# Altium footprint library WR-PHD_Pin Header_1.27mm.PcbLib: 31 footprints (part 2 of 2)
Each footprint in its own frame and in the unit in brackets; x right, y up, seen from the top. Pads: shape width x height; smd on the part's side, far side on the other; paste and mask are expansions set on the pad; w line width, h text height; cw(c..) or ccw(c..) is an arc to the next point about the centre after c.
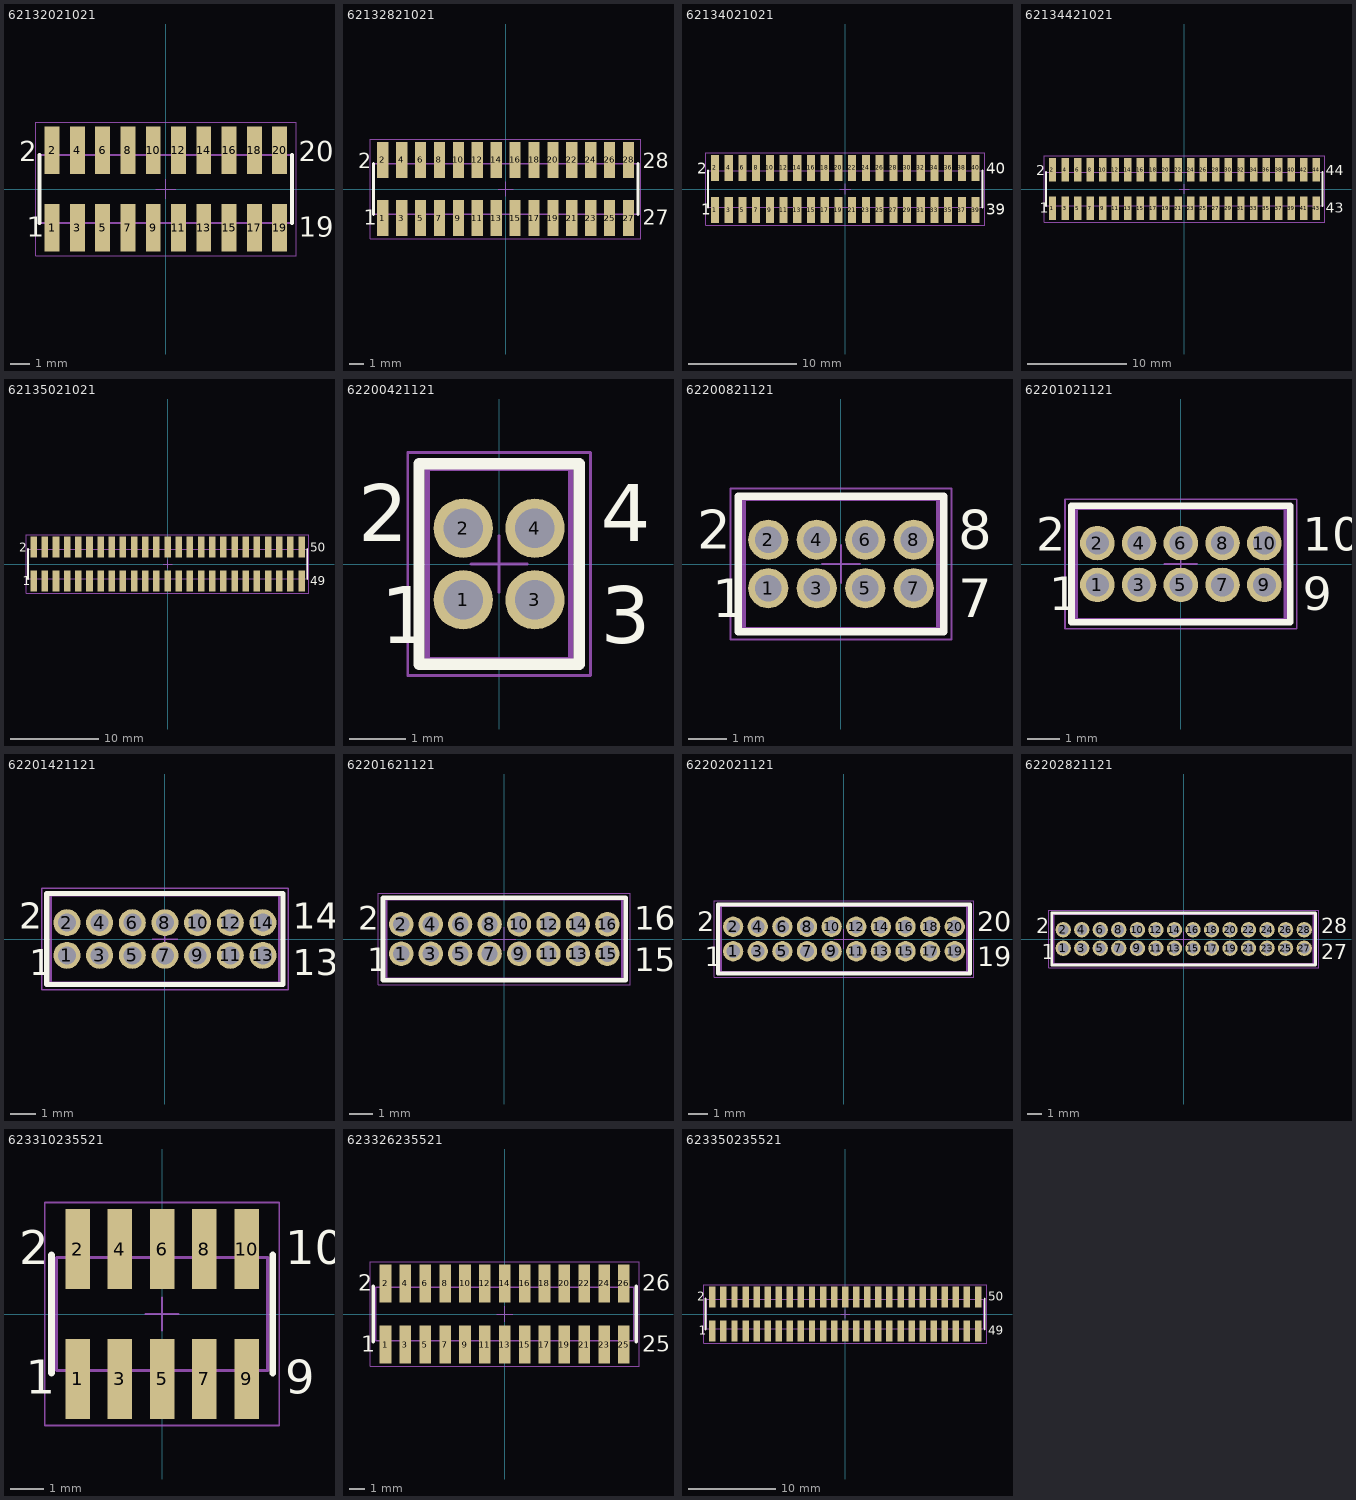
[diagram p1: the footprints below, top view; thin cyan lines are the x and y axes]

## 62132021021 [mm] "Pin Header, pitch 1.27 mm, SMD, Vertical, dual row, 20p"
height 6.1
pads (20):
  rect 0.75x2.4 smd: 1(-5.715,-1.95) 2(-5.715,1.95) 3(-4.445,-1.95) 4(-4.445,1.95) 5(-3.175,-1.95) 6(-3.175,1.95) 7(-1.905,-1.95) 8(-1.905,1.95) 9(-0.635,-1.95) 10(-0.635,1.95) 11(0.635,-1.95) 12(0.635,1.95) 13(1.905,-1.95) 14(1.905,1.95) 15(3.175,-1.95) 16(3.175,1.95) 17(4.445,-1.95) 18(4.445,1.95) 19(5.715,-1.95) 20(5.715,1.95)
Top Overlay:
  lines w0.2: -6.35,-1.7 -6.35,1.7 ; 6.35,-1.7 6.35,1.7
  text "1" at -6.98,-2.4 h1.02
  text "2" at -7.38,1.4 h1.02
  text "19" at 6.68,-2.4 h1.02
  text "20" at 6.68,1.4 h1.02
Mechanical 13:
  lines w0.1: -5.915,-1.7 -5.915,-2.5 -5.515,-2.5 -5.515,-1.7 ; -5.915,1.7 -5.915,2.5 -5.515,2.5 -5.515,1.7 ; -4.645,-1.7 -4.645,-2.5 -4.245,-2.5 -4.245,-1.7 ; -4.645,1.7 -4.645,2.5 -4.245,2.5 -4.245,1.7 ; -3.375,-1.7 -3.375,-2.5 -2.975,-2.5 -2.975,-1.7 ; -3.375,1.7 -3.375,2.5 -2.975,2.5 -2.975,1.7 ; -2.105,-1.7 -2.105,-2.5 -1.705,-2.5 -1.705,-1.7 ; -2.105,1.7 -2.105,2.5 -1.705,2.5 -1.705,1.7 ; -0.835,-1.7 -0.835,-2.5 -0.435,-2.5 -0.435,-1.7 ; -0.835,1.7 -0.835,2.5 -0.435,2.5 -0.435,1.7 ; 0.435,-1.7 0.435,-2.5 0.835,-2.5 0.835,-1.7 ; 0.435,1.7 0.435,2.5 0.835,2.5 0.835,1.7 ; 1.705,-1.7 1.705,-2.5 2.105,-2.5 2.105,-1.7 ; 1.705,1.7 1.705,2.5 2.105,2.5 2.105,1.7 ; 2.975,-1.7 2.975,-2.5 3.375,-2.5 3.375,-1.7 ; 2.975,1.7 2.975,2.5 3.375,2.5 3.375,1.7 ; 4.245,-1.7 4.245,-2.5 4.645,-2.5 4.645,-1.7 ; 4.245,1.7 4.245,2.5 4.645,2.5 4.645,1.7 ; 5.515,-1.7 5.515,-2.5 5.915,-2.5 5.915,-1.7 ; 5.515,1.7 5.515,2.5 5.915,2.5 5.915,1.7 ; -6.35,-1.7 -6.35,1.7 6.35,1.7 6.35,-1.7 -6.35,-1.7
Mechanical 15:
  lines w0.05: -0.5,0 0.5,0 ; 0,-0.5 0,0.5 ; -6.55,-3.35 -6.55,3.35 6.55,3.35 6.55,-3.35 -6.55,-3.35
3D body "62132021021.stp": height 5.9, standoff 0, extent -6.35,-2.55 6.35,2.55

## 62132821021 [mm] "Pin Header, pitch 1.27 mm, SMD, Vertical, dual row, 28p"
height 6.1
pads (28):
  rect 0.75x2.4 smd: 1(-8.255,-1.95) 2(-8.255,1.95) 3(-6.985,-1.95) 4(-6.985,1.95) 5(-5.715,-1.95) 6(-5.715,1.95) 7(-4.445,-1.95) 8(-4.445,1.95) 9(-3.175,-1.95) 10(-3.175,1.95) 11(-1.905,-1.95) 12(-1.905,1.95) 13(-0.635,-1.95) 14(-0.635,1.95) 15(0.635,-1.95) 16(0.635,1.95) 17(1.905,-1.95) 18(1.905,1.95) 19(3.175,-1.95) 20(3.175,1.95) 21(4.445,-1.95) 22(4.445,1.95) 23(5.715,-1.95) 24(5.715,1.95) 25(6.985,-1.95) 26(6.985,1.95) 27(8.255,-1.95) 28(8.255,1.95)
Top Overlay:
  lines w0.2: -8.89,-1.7 -8.89,1.7 ; 8.89,-1.7 8.89,1.7
  text "1" at -9.52,-2.4 h1.02
  text "2" at -9.92,1.4 h1.02
  text "27" at 9.22,-2.4 h1.02
  text "28" at 9.22,1.4 h1.02
Mechanical 13:
  lines w0.1: -8.455,-1.7 -8.455,-2.5 -8.055,-2.5 -8.055,-1.7 ; -8.455,1.7 -8.455,2.5 -8.055,2.5 -8.055,1.7 ; -7.185,-1.7 -7.185,-2.5 -6.785,-2.5 -6.785,-1.7 ; -7.185,1.7 -7.185,2.5 -6.785,2.5 -6.785,1.7 ; -5.915,-1.7 -5.915,-2.5 -5.515,-2.5 -5.515,-1.7 ; -5.915,1.7 -5.915,2.5 -5.515,2.5 -5.515,1.7 ; -4.645,-1.7 -4.645,-2.5 -4.245,-2.5 -4.245,-1.7 ; -4.645,1.7 -4.645,2.5 -4.245,2.5 -4.245,1.7 ; -3.375,-1.7 -3.375,-2.5 -2.975,-2.5 -2.975,-1.7 ; -3.375,1.7 -3.375,2.5 -2.975,2.5 -2.975,1.7 ; -2.105,-1.7 -2.105,-2.5 -1.705,-2.5 -1.705,-1.7 ; -2.105,1.7 -2.105,2.5 -1.705,2.5 -1.705,1.7 ; -0.835,-1.7 -0.835,-2.5 -0.435,-2.5 -0.435,-1.7 ; -0.835,1.7 -0.835,2.5 -0.435,2.5 -0.435,1.7 ; 0.435,-1.7 0.435,-2.5 0.835,-2.5 0.835,-1.7 ; 0.435,1.7 0.435,2.5 0.835,2.5 0.835,1.7 ; 1.705,-1.7 1.705,-2.5 2.105,-2.5 2.105,-1.7 ; 1.705,1.7 1.705,2.5 2.105,2.5 2.105,1.7 ; 2.975,-1.7 2.975,-2.5 3.375,-2.5 3.375,-1.7 ; 2.975,1.7 2.975,2.5 3.375,2.5 3.375,1.7 ; 4.245,-1.7 4.245,-2.5 4.645,-2.5 4.645,-1.7 ; 4.245,1.7 4.245,2.5 4.645,2.5 4.645,1.7 ; 5.515,-1.7 5.515,-2.5 5.915,-2.5 5.915,-1.7 ; 5.515,1.7 5.515,2.5 5.915,2.5 5.915,1.7 ; 6.785,-1.7 6.785,-2.5 7.185,-2.5 7.185,-1.7 ; 6.785,1.7 6.785,2.5 7.185,2.5 7.185,1.7 ; 8.055,-1.7 8.055,-2.5 8.455,-2.5 8.455,-1.7 ; 8.055,1.7 8.055,2.5 8.455,2.5 8.455,1.7 ; -8.89,-1.7 -8.89,1.7 8.89,1.7 8.89,-1.7 -8.89,-1.7
Mechanical 15:
  lines w0.05: -0.5,0 0.5,0 ; 0,-0.5 0,0.5 ; -9.09,-3.35 -9.09,3.35 9.09,3.35 9.09,-3.35 -9.09,-3.35
3D body "62132821021.stp": height 5.9, standoff 0, extent -8.89,-2.55 8.89,2.55

## 62134021021 [mm] "Pin Header, pitch 1.27 mm, SMD, Vertical, dual row, 40p"
height 6.1
pads (40):
  rect 0.75x2.4 smd: 1(-12.065,-1.95) 2(-12.065,1.95) 3(-10.795,-1.95) 4(-10.795,1.95) 5(-9.525,-1.95) 6(-9.525,1.95) 7(-8.255,-1.95) 8(-8.255,1.95) 9(-6.985,-1.95) 10(-6.985,1.95) 11(-5.715,-1.95) 12(-5.715,1.95) 13(-4.445,-1.95) 14(-4.445,1.95) 15(-3.175,-1.95) 16(-3.175,1.95) 17(-1.905,-1.95) 18(-1.905,1.95) 19(-0.635,-1.95) 20(-0.635,1.95) 21(0.635,-1.95) 22(0.635,1.95) 23(1.905,-1.95) 24(1.905,1.95) 25(3.175,-1.95) 26(3.175,1.95) 27(4.445,-1.95) 28(4.445,1.95) 29(5.715,-1.95) 30(5.715,1.95) 31(6.985,-1.95) 32(6.985,1.95) 33(8.255,-1.95) 34(8.255,1.95) 35(9.525,-1.95) 36(9.525,1.95) 37(10.795,-1.95) 38(10.795,1.95) 39(12.065,-1.95) 40(12.065,1.95)
Top Overlay:
  lines w0.2: -12.7,-1.7 -12.7,1.7 ; 12.7,-1.7 12.7,1.7
  text "40" at 13.03,1.4 h1.02
  text "39" at 13.03,-2.4 h1.02
  text "1" at -13.33,-2.4 h1.02
  text "2" at -13.73,1.4 h1.02
Mechanical 13:
  lines w0.1: -12.265,-1.7 -12.265,-2.5 -11.865,-2.5 -11.865,-1.7 ; -12.265,1.7 -12.265,2.5 -11.865,2.5 -11.865,1.7 ; -10.995,-1.7 -10.995,-2.5 -10.595,-2.5 -10.595,-1.7 ; -10.995,1.7 -10.995,2.5 -10.595,2.5 -10.595,1.7 ; -9.725,-1.7 -9.725,-2.5 -9.325,-2.5 -9.325,-1.7 ; -9.725,1.7 -9.725,2.5 -9.325,2.5 -9.325,1.7 ; -8.455,-1.7 -8.455,-2.5 -8.055,-2.5 -8.055,-1.7 ; -8.455,1.7 -8.455,2.5 -8.055,2.5 -8.055,1.7 ; -7.185,-1.7 -7.185,-2.5 -6.785,-2.5 -6.785,-1.7 ; -7.185,1.7 -7.185,2.5 -6.785,2.5 -6.785,1.7 ; -5.915,-1.7 -5.915,-2.5 -5.515,-2.5 -5.515,-1.7 ; -5.915,1.7 -5.915,2.5 -5.515,2.5 -5.515,1.7 ; -4.645,-1.7 -4.645,-2.5 -4.245,-2.5 -4.245,-1.7 ; -4.645,1.7 -4.645,2.5 -4.245,2.5 -4.245,1.7 ; -3.375,-1.7 -3.375,-2.5 -2.975,-2.5 -2.975,-1.7 ; -3.375,1.7 -3.375,2.5 -2.975,2.5 -2.975,1.7 ; -2.105,-1.7 -2.105,-2.5 -1.705,-2.5 -1.705,-1.7 ; -2.105,1.7 -2.105,2.5 -1.705,2.5 -1.705,1.7 ; -0.835,-1.7 -0.835,-2.5 -0.435,-2.5 -0.435,-1.7 ; -0.835,1.7 -0.835,2.5 -0.435,2.5 -0.435,1.7 ; 0.435,-1.7 0.435,-2.5 0.835,-2.5 0.835,-1.7 ; 0.435,1.7 0.435,2.5 0.835,2.5 0.835,1.7 ; 1.705,-1.7 1.705,-2.5 2.105,-2.5 2.105,-1.7 ; 1.705,1.7 1.705,2.5 2.105,2.5 2.105,1.7 ; 2.975,-1.7 2.975,-2.5 3.375,-2.5 3.375,-1.7 ; 2.975,1.7 2.975,2.5 3.375,2.5 3.375,1.7 ; 4.245,-1.7 4.245,-2.5 4.645,-2.5 4.645,-1.7 ; 4.245,1.7 4.245,2.5 4.645,2.5 4.645,1.7 ; 5.515,-1.7 5.515,-2.5 5.915,-2.5 5.915,-1.7 ; 5.515,1.7 5.515,2.5 5.915,2.5 5.915,1.7 ; 6.785,-1.7 6.785,-2.5 7.185,-2.5 7.185,-1.7 ; 6.785,1.7 6.785,2.5 7.185,2.5 7.185,1.7 ; 8.055,-1.7 8.055,-2.5 8.455,-2.5 8.455,-1.7 ; 8.055,1.7 8.055,2.5 8.455,2.5 8.455,1.7 ; 9.325,-1.7 9.325,-2.5 9.725,-2.5 9.725,-1.7 ; 9.325,1.7 9.325,2.5 9.725,2.5 9.725,1.7 ; 10.595,-1.7 10.595,-2.5 10.995,-2.5 10.995,-1.7 ; 10.595,1.7 10.595,2.5 10.995,2.5 10.995,1.7 ; 11.865,-1.7 11.865,-2.5 12.265,-2.5 12.265,-1.7 ; 11.865,1.7 11.865,2.5 12.265,2.5 12.265,1.7 ; -12.7,-1.7 -12.7,1.7 12.7,1.7 12.7,-1.7 -12.7,-1.7
Mechanical 15:
  lines w0.05: -0.5,0 0.5,0 ; 0,-0.5 0,0.5 ; -12.9,-3.35 -12.9,3.35 12.9,3.35 12.9,-3.35 -12.9,-3.35
3D body "62134021021.stp": height 5.9, standoff 0, extent -12.7,-2.55 12.7,2.55

## 62134421021 [mm] "Pin Header, pitch 1.27 mm, SMD, Vertical, dual row, 44p"
height 6.1
pads (44):
  rect 0.75x2.4 smd: 1(-13.335,-1.95) 2(-13.335,1.95) 3(-12.065,-1.95) 4(-12.065,1.95) 5(-10.795,-1.95) 6(-10.795,1.95) 7(-9.525,-1.95) 8(-9.525,1.95) 9(-8.255,-1.95) 10(-8.255,1.95) 11(-6.985,-1.95) 12(-6.985,1.95) 13(-5.715,-1.95) 14(-5.715,1.95) 15(-4.445,-1.95) 16(-4.445,1.95) 17(-3.175,-1.95) 18(-3.175,1.95) 19(-1.905,-1.95) 20(-1.905,1.95) 21(-0.635,-1.95) 22(-0.635,1.95) 23(0.635,-1.95) 24(0.635,1.95) 25(1.905,-1.95) 26(1.905,1.95) 27(3.175,-1.95) 28(3.175,1.95) 29(4.445,-1.95) 30(4.445,1.95) 31(5.715,-1.95) 32(5.715,1.95) 33(6.985,-1.95) 34(6.985,1.95) 35(8.255,-1.95) 36(8.255,1.95) 37(9.525,-1.95) 38(9.525,1.95) 39(10.795,-1.95) 40(10.795,1.95) 41(12.065,-1.95) 42(12.065,1.95) 43(13.335,-1.95) 44(13.335,1.95)
Top Overlay:
  lines w0.2: -13.97,-1.7 -13.97,1.7 ; 13.97,-1.7 13.97,1.7
  text "44" at 14.3,1.4 h1.02
  text "43" at 14.3,-2.4 h1.02
  text "2" at -15,1.4 h1.02
  text "1" at -14.6,-2.4 h1.02
Mechanical 13:
  lines w0.1: -13.535,-1.7 -13.535,-2.5 -13.135,-2.5 -13.135,-1.7 ; -13.535,1.7 -13.535,2.5 -13.135,2.5 -13.135,1.7 ; -12.265,-1.7 -12.265,-2.5 -11.865,-2.5 -11.865,-1.7 ; -12.265,1.7 -12.265,2.5 -11.865,2.5 -11.865,1.7 ; -10.995,-1.7 -10.995,-2.5 -10.595,-2.5 -10.595,-1.7 ; -10.995,1.7 -10.995,2.5 -10.595,2.5 -10.595,1.7 ; -9.725,-1.7 -9.725,-2.5 -9.325,-2.5 -9.325,-1.7 ; -9.725,1.7 -9.725,2.5 -9.325,2.5 -9.325,1.7 ; -8.455,-1.7 -8.455,-2.5 -8.055,-2.5 -8.055,-1.7 ; -8.455,1.7 -8.455,2.5 -8.055,2.5 -8.055,1.7 ; -7.185,-1.7 -7.185,-2.5 -6.785,-2.5 -6.785,-1.7 ; -7.185,1.7 -7.185,2.5 -6.785,2.5 -6.785,1.7 ; -5.915,-1.7 -5.915,-2.5 -5.515,-2.5 -5.515,-1.7 ; -5.915,1.7 -5.915,2.5 -5.515,2.5 -5.515,1.7 ; -4.645,-1.7 -4.645,-2.5 -4.245,-2.5 -4.245,-1.7 ; -4.645,1.7 -4.645,2.5 -4.245,2.5 -4.245,1.7 ; -3.375,-1.7 -3.375,-2.5 -2.975,-2.5 -2.975,-1.7 ; -3.375,1.7 -3.375,2.5 -2.975,2.5 -2.975,1.7 ; -2.105,-1.7 -2.105,-2.5 -1.705,-2.5 -1.705,-1.7 ; -2.105,1.7 -2.105,2.5 -1.705,2.5 -1.705,1.7 ; -0.835,-1.7 -0.835,-2.5 -0.435,-2.5 -0.435,-1.7 ; -0.835,1.7 -0.835,2.5 -0.435,2.5 -0.435,1.7 ; 0.435,-1.7 0.435,-2.5 0.835,-2.5 0.835,-1.7 ; 0.435,1.7 0.435,2.5 0.835,2.5 0.835,1.7 ; 1.705,-1.7 1.705,-2.5 2.105,-2.5 2.105,-1.7 ; 1.705,1.7 1.705,2.5 2.105,2.5 2.105,1.7 ; 2.975,-1.7 2.975,-2.5 3.375,-2.5 3.375,-1.7 ; 2.975,1.7 2.975,2.5 3.375,2.5 3.375,1.7 ; 4.245,-1.7 4.245,-2.5 4.645,-2.5 4.645,-1.7 ; 4.245,1.7 4.245,2.5 4.645,2.5 4.645,1.7 ; 5.515,-1.7 5.515,-2.5 5.915,-2.5 5.915,-1.7 ; 5.515,1.7 5.515,2.5 5.915,2.5 5.915,1.7 ; 6.785,-1.7 6.785,-2.5 7.185,-2.5 7.185,-1.7 ; 6.785,1.7 6.785,2.5 7.185,2.5 7.185,1.7 ; 8.055,-1.7 8.055,-2.5 8.455,-2.5 8.455,-1.7 ; 8.055,1.7 8.055,2.5 8.455,2.5 8.455,1.7 ; 9.325,-1.7 9.325,-2.5 9.725,-2.5 9.725,-1.7 ; 9.325,1.7 9.325,2.5 9.725,2.5 9.725,1.7 ; 10.595,-1.7 10.595,-2.5 10.995,-2.5 10.995,-1.7 ; 10.595,1.7 10.595,2.5 10.995,2.5 10.995,1.7 ; 11.865,-1.7 11.865,-2.5 12.265,-2.5 12.265,-1.7 ; 11.865,1.7 11.865,2.5 12.265,2.5 12.265,1.7 ; 13.135,-1.7 13.135,-2.5 13.535,-2.5 13.535,-1.7 ; 13.135,1.7 13.135,2.5 13.535,2.5 13.535,1.7 ; -13.97,-1.7 13.97,-1.7 13.97,1.7 -13.97,1.7 -13.97,-1.7
Mechanical 15:
  lines w0.05: -0.5,0 0.5,0 ; 0,-0.5 0,0.5 ; -14.17,-3.35 14.17,-3.35 14.17,3.35 -14.17,3.35 -14.17,-3.35
3D body "62134421021.stp": height 5.9, standoff 0, extent -13.97,-2.55 13.97,2.55

## 62135021021 [mm] "Pin Header, pitch 1.27 mm, SMD, Vertical, dual row, 50p"
height 6.1
pads (50):
  rect 0.75x2.4 smd: 1(-15.24,-1.95) 2(-15.24,1.95) 3(-13.97,-1.95) 4(-13.97,1.95) 5(-12.7,-1.95) 6(-12.7,1.95) 7(-11.43,-1.95) 8(-11.43,1.95) 9(-10.16,-1.95) 10(-10.16,1.95) 11(-8.89,-1.95) 12(-8.89,1.95) 13(-7.62,-1.95) 14(-7.62,1.95) 15(-6.35,-1.95) 16(-6.35,1.95) 17(-5.08,-1.95) 18(-5.08,1.95) 19(-3.81,-1.95) 20(-3.81,1.95) 21(-2.54,-1.95) 22(-2.54,1.95) 23(-1.27,-1.95) 24(-1.27,1.95) 25(0,-1.95) 26(0,1.95) 27(1.27,-1.95) 28(1.27,1.95) 29(2.54,-1.95) 30(2.54,1.95) 31(3.81,-1.95) 32(3.81,1.95) 33(5.08,-1.95) 34(5.08,1.95) 35(6.35,-1.95) 36(6.35,1.95) 37(7.62,-1.95) 38(7.62,1.95) 39(8.89,-1.95) 40(8.89,1.95) 41(10.16,-1.95) 42(10.16,1.95) 43(11.43,-1.95) 44(11.43,1.95) 45(12.7,-1.95) 46(12.7,1.95) 47(13.97,-1.95) 48(13.97,1.95) 49(15.24,-1.95) 50(15.24,1.95)
Top Overlay:
  lines w0.2: -15.875,-1.7 -15.875,1.7 ; 15.875,-1.7 15.875,1.7
  text "50" at 16.205,1.4 h1.02
  text "49" at 16.205,-2.4 h1.02
  text "1" at -16.505,-2.4 h1.02
  text "2" at -16.905,1.4 h1.02
Mechanical 13:
  drawing of 154 lines, arcs and shapes, not listed
Mechanical 15:
  lines w0.05: -0.5,0 0.5,0 ; 0,-0.5 0,0.5 ; -16.075,-3.35 -16.075,3.35 16.075,3.35 16.075,-3.35 -16.075,-3.35
3D body "62135021021.stp": height 5.9, standoff 0, extent -15.875,-2.55 15.875,2.55

## 62200421121 [mm] "Pin Header, pitch 1.27 mm, THT, Vertical, dual row, 4p"
height 5.65
pads (4):
  round 1.05 hole 0.7: 1(-0.635,-0.635) 2(-0.635,0.635) 3(0.635,-0.635) 4(0.635,0.635)
Top Overlay:
  lines w0.2: -1.42,-1.775 1.42,-1.775 1.42,1.775 -1.42,1.775 -1.42,-1.775
  text "3" at 1.8,-1.4 h1.02
  text "4" at 1.8,0.4 h1.02
  text "2" at -2.5,0.4 h1.02
  text "1" at -2.1,-1.4 h1.02
Mechanical 13:
  lines w0.1: -1.27,-1.7 1.27,-1.7 1.27,1.7 -1.27,1.7 -1.27,-1.7
Mechanical 15:
  lines w0.05: -0.5,0 0.5,0 ; 0,-0.5 0,0.5 ; -1.62,-1.975 1.62,-1.975 1.62,1.975 -1.62,1.975 -1.62,-1.975
3D body "62200421121.stp": height 5.33, standoff -2.27, extent -1.27,-1.7 1.27,1.7

## 62200821121 [mm] "Pin Header, pitch 1.27 mm, THT, Vertical, dual row, 8p"
height 5.65
pads (8):
  round 1.05 hole 0.7: 1(-1.905,-0.635) 2(-1.905,0.635) 3(-0.635,-0.635) 4(-0.635,0.635) 5(0.635,-0.635) 6(0.635,0.635) 7(1.905,-0.635) 8(1.905,0.635)
Top Overlay:
  lines w0.2: -2.69,-1.775 -2.69,1.775 2.69,1.775 2.69,-1.775 -2.69,-1.775
  text "7" at 3.07,-1.4 h1.02
  text "8" at 3.07,0.4 h1.02
  text "1" at -3.37,-1.4 h1.02
  text "2" at -3.77,0.4 h1.02
Mechanical 13:
  lines w0.1: -2.54,-1.7 -2.54,1.7 2.54,1.7 2.54,-1.7 -2.54,-1.7
Mechanical 15:
  lines w0.05: -0.5,0 0.5,0 ; 0,-0.5 0,0.5 ; -2.89,-1.975 -2.89,1.975 2.89,1.975 2.89,-1.975 -2.89,-1.975
3D body "62200821121.stp": height 5.33, standoff -2.27, extent -2.54,-1.7 2.54,1.7

## 62201021121 [mm] "Pin Header, pitch 1.27 mm, THT, Vertical, dual row, 10p"
height 5.65
pads (10):
  round 1.05 hole 0.7: 1(-2.54,-0.635) 2(-2.54,0.635) 3(-1.27,-0.635) 4(-1.27,0.635) 5(0,-0.635) 6(0,0.635) 7(1.27,-0.635) 8(1.27,0.635) 9(2.54,-0.635) 10(2.54,0.635)
Top Overlay:
  lines w0.2: -3.325,-1.775 3.325,-1.775 3.325,1.775 -3.325,1.775 -3.325,-1.775
  text "2" at -4.405,0.4 h1.02
  text "1" at -4.005,-1.4 h1.02
  text "10" at 3.705,0.4 h1.02
  text "9" at 3.705,-1.4 h1.02
Mechanical 13:
  lines w0.1: -3.175,-1.7 3.175,-1.7 3.175,1.7 -3.175,1.7 -3.175,-1.7
Mechanical 15:
  lines w0.05: -0.5,0 0.5,0 ; 0,-0.5 0,0.5 ; -3.525,-1.975 3.525,-1.975 3.525,1.975 -3.525,1.975 -3.525,-1.975
3D body "62201021121.stp": height 5.33, standoff -2.27, extent -3.175,-1.7 3.175,1.7

## 62201421121 [mm] "Pin Header, pitch 1.27 mm, THT, Vertical, dual row, 14p"
height 5.65
pads (14):
  round 1.05 hole 0.7: 1(-3.81,-0.635) 2(-3.81,0.635) 3(-2.54,-0.635) 4(-2.54,0.635) 5(-1.27,-0.635) 6(-1.27,0.635) 7(0,-0.635) 8(0,0.635) 9(1.27,-0.635) 10(1.27,0.635) 11(2.54,-0.635) 12(2.54,0.635) 13(3.81,-0.635) 14(3.81,0.635)
Top Overlay:
  lines w0.2: -4.595,-1.775 -4.595,1.775 4.595,1.775 4.595,-1.775 -4.595,-1.775
  text "13" at 4.975,-1.4 h1.02
  text "14" at 4.975,0.4 h1.02
  text "1" at -5.275,-1.4 h1.02
  text "2" at -5.675,0.4 h1.02
Mechanical 13:
  lines w0.1: -4.445,-1.7 -4.445,1.7 4.445,1.7 4.445,-1.7 -4.445,-1.7
Mechanical 15:
  lines w0.05: -0.5,0 0.5,0 ; 0,-0.5 0,0.5 ; -4.795,-1.975 -4.795,1.975 4.795,1.975 4.795,-1.975 -4.795,-1.975
3D body "62201421121.stp": height 5.33, standoff -2.27, extent -4.445,-1.7 4.445,1.7

## 62201621121 [mm] "Pin Header, pitch 1.27 mm, THT, Vertical, dual row, 16p"
height 5.65
pads (16):
  round 1.05 hole 0.7: 1(-4.445,-0.635) 2(-4.445,0.635) 3(-3.175,-0.635) 4(-3.175,0.635) 5(-1.905,-0.635) 6(-1.905,0.635) 7(-0.635,-0.635) 8(-0.635,0.635) 9(0.635,-0.635) 10(0.635,0.635) 11(1.905,-0.635) 12(1.905,0.635) 13(3.175,-0.635) 14(3.175,0.635) 15(4.445,-0.635) 16(4.445,0.635)
Top Overlay:
  lines w0.2: -5.23,-1.775 -5.23,1.775 5.23,1.775 5.23,-1.775 -5.23,-1.775
  text "1" at -5.91,-1.4 h1.02
  text "2" at -6.31,0.4 h1.02
  text "16" at 5.61,0.4 h1.02
  text "15" at 5.61,-1.4 h1.02
Mechanical 13:
  lines w0.1: -5.08,-1.7 -5.08,1.7 5.08,1.7 5.08,-1.7 -5.08,-1.7
Mechanical 15:
  lines w0.05: -0.5,0 0.5,0 ; 0,-0.5 0,0.5 ; -5.43,-1.975 -5.43,1.975 5.43,1.975 5.43,-1.975 -5.43,-1.975
3D body "62201621121.stp": height 5.33, standoff -2.27, extent -5.08,-1.7 5.08,1.7

## 62202021121 [mm] "Pin Header, pitch 1.27 mm, THT, Vertical, dual row, 20p"
height 5.65
pads (20):
  round 1.05 hole 0.7: 1(-5.715,-0.635) 2(-5.715,0.635) 3(-4.445,-0.635) 4(-4.445,0.635) 5(-3.175,-0.635) 6(-3.175,0.635) 7(-1.905,-0.635) 8(-1.905,0.635) 9(-0.635,-0.635) 10(-0.635,0.635) 11(0.635,-0.635) 12(0.635,0.635) 13(1.905,-0.635) 14(1.905,0.635) 15(3.175,-0.635) 16(3.175,0.635) 17(4.445,-0.635) 18(4.445,0.635) 19(5.715,-0.635) 20(5.715,0.635)
Top Overlay:
  lines w0.2: -6.5,-1.775 -6.5,1.775 6.5,1.775 6.5,-1.775 -6.5,-1.775
  text "19" at 6.88,-1.4 h1.02
  text "20" at 6.88,0.4 h1.02
  text "1" at -7.18,-1.4 h1.02
  text "2" at -7.58,0.4 h1.02
Mechanical 13:
  lines w0.1: -6.35,-1.7 -6.35,1.7 6.35,1.7 6.35,-1.7 -6.35,-1.7
Mechanical 15:
  lines w0.05: -0.5,0 0.5,0 ; 0,-0.5 0,0.5 ; -6.7,-1.975 -6.7,1.975 6.7,1.975 6.7,-1.975 -6.7,-1.975
3D body "62202021121.stp": height 5.33, standoff -2.27, extent -6.35,-1.7 6.35,1.7

## 62202821121 [mm] "Pin Header, pitch 1.27 mm, THT, Vertical, dual row, 28p"
height 5.65
pads (28):
  round 1.05 hole 0.7: 1(-8.255,-0.635) 2(-8.255,0.635) 3(-6.985,-0.635) 4(-6.985,0.635) 5(-5.715,-0.635) 6(-5.715,0.635) 7(-4.445,-0.635) 8(-4.445,0.635) 9(-3.175,-0.635) 10(-3.175,0.635) 11(-1.905,-0.635) 12(-1.905,0.635) 13(-0.635,-0.635) 14(-0.635,0.635) 15(0.635,-0.635) 16(0.635,0.635) 17(1.905,-0.635) 18(1.905,0.635) 19(3.175,-0.635) 20(3.175,0.635) 21(4.445,-0.635) 22(4.445,0.635) 23(5.715,-0.635) 24(5.715,0.635) 25(6.985,-0.635) 26(6.985,0.635) 27(8.255,-0.635) 28(8.255,0.635)
Top Overlay:
  lines w0.2: -9.04,-1.775 -9.04,1.775 9.04,1.775 9.04,-1.775 -9.04,-1.775
  text "1" at -9.72,-1.4 h1.02
  text "2" at -10.12,0.4 h1.02
  text "28" at 9.42,0.4 h1.02
  text "27" at 9.42,-1.4 h1.02
Mechanical 13:
  lines w0.1: -8.89,-1.7 -8.89,1.7 8.89,1.7 8.89,-1.7 -8.89,-1.7
Mechanical 15:
  lines w0.05: -0.5,0 0.5,0 ; 0,-0.5 0,0.5 ; -9.24,-1.975 -9.24,1.975 9.24,1.975 9.24,-1.975 -9.24,-1.975
3D body "62202821121.stp": height 5.33, standoff -2.27, extent -8.89,-1.7 8.89,1.7

## 623310235521 [mm] "Pin Header, pitch 1.27 mm, SMD, Vertical, dual row, 10p"
height 4.45
pads (10):
  rect 0.74x2.4 smd: 1(-2.54,-1.95) 2(-2.54,1.95) 3(-1.27,-1.95) 4(-1.27,1.95) 5(0,-1.95) 6(0,1.95) 7(1.27,-1.95) 8(1.27,1.95) 9(2.54,-1.95) 10(2.54,1.95)
Top Overlay:
  lines w0.2: -3.325,-1.775 -3.325,1.775 ; 3.325,-1.775 3.325,1.775
  text "10" at 3.7,1.5 h1.02
  text "9" at 3.7,-2.4 h1.02
  text "2" at -4.3,1.5 h1.02
  text "1" at -4.1,-2.4 h1.02
Mechanical 13:
  lines w0.1: -2.74,-1.7 -2.74,-2.75 -2.34,-2.75 -2.34,-1.7 ; -2.74,1.7 -2.74,2.75 -2.34,2.75 -2.34,1.7 ; -1.47,-1.7 -1.47,-2.75 -1.07,-2.75 -1.07,-1.7 ; -1.47,1.7 -1.47,2.75 -1.07,2.75 -1.07,1.7 ; -0.2,-1.7 -0.2,-2.75 0.2,-2.75 0.2,-1.7 ; -0.2,1.7 -0.2,2.75 0.2,2.75 0.2,1.7 ; 1.07,-1.7 1.07,-2.75 1.47,-2.75 1.47,-1.7 ; 1.07,1.7 1.07,2.75 1.47,2.75 1.47,1.7 ; 2.34,-1.7 2.34,-2.75 2.74,-2.75 2.74,-1.7 ; 2.34,1.7 2.34,2.75 2.74,2.75 2.74,1.7 ; -3.175,-1.7 -3.175,1.7 3.175,1.7 3.175,-1.7 -3.175,-1.7
Mechanical 15:
  lines w0.05: -0.5,0 0.5,0 ; 0,-0.5 0,0.5 ; -3.525,-3.35 -3.525,3.35 3.525,3.35 3.525,-3.35 -3.525,-3.35
3D body "623310235521.stp": height 5.31, standoff 0, extent -3.175,-2.75 3.175,2.75

## 623326235521 [mm] "Pin Header, pitch 1.27 mm, SMD, Vertical, dual row, 26p"
height 4.45
pads (26):
  rect 0.74x2.4 smd: 1(-7.62,-1.95) 2(-7.62,1.95) 3(-6.35,-1.95) 4(-6.35,1.95) 5(-5.08,-1.95) 6(-5.08,1.95) 7(-3.81,-1.95) 8(-3.81,1.95) 9(-2.54,-1.95) 10(-2.54,1.95) 11(-1.27,-1.95) 12(-1.27,1.95) 13(0,-1.95) 14(0,1.95) 15(1.27,-1.95) 16(1.27,1.95) 17(2.54,-1.95) 18(2.54,1.95) 19(3.81,-1.95) 20(3.81,1.95) 21(5.08,-1.95) 22(5.08,1.95) 23(6.35,-1.95) 24(6.35,1.95) 25(7.62,-1.95) 26(7.62,1.95)
Top Overlay:
  lines w0.2: -8.405,-1.775 -8.405,1.775 ; 8.405,-1.775 8.405,1.775
  text "25" at 8.78,-2.4 h1.02
  text "26" at 8.78,1.5 h1.02
  text "1" at -9.18,-2.4 h1.02
  text "2" at -9.38,1.5 h1.02
Mechanical 13:
  lines w0.1: -7.82,-1.7 -7.82,-2.75 -7.42,-2.75 -7.42,-1.7 ; -7.82,1.7 -7.82,2.75 -7.42,2.75 -7.42,1.7 ; -6.55,-1.7 -6.55,-2.75 -6.15,-2.75 -6.15,-1.7 ; -6.55,1.7 -6.55,2.75 -6.15,2.75 -6.15,1.7 ; -5.28,-1.7 -5.28,-2.75 -4.88,-2.75 -4.88,-1.7 ; -5.28,1.7 -5.28,2.75 -4.88,2.75 -4.88,1.7 ; -4.01,-1.7 -4.01,-2.75 -3.61,-2.75 -3.61,-1.7 ; -4.01,1.7 -4.01,2.75 -3.61,2.75 -3.61,1.7 ; -2.74,-1.7 -2.74,-2.75 -2.34,-2.75 -2.34,-1.7 ; -2.74,1.7 -2.74,2.75 -2.34,2.75 -2.34,1.7 ; -1.47,-1.7 -1.47,-2.75 -1.07,-2.75 -1.07,-1.7 ; -1.47,1.7 -1.47,2.75 -1.07,2.75 -1.07,1.7 ; -0.2,-1.7 -0.2,-2.75 0.2,-2.75 0.2,-1.7 ; -0.2,1.7 -0.2,2.75 0.2,2.75 0.2,1.7 ; 1.07,-1.7 1.07,-2.75 1.47,-2.75 1.47,-1.7 ; 1.07,1.7 1.07,2.75 1.47,2.75 1.47,1.7 ; 2.34,-1.7 2.34,-2.75 2.74,-2.75 2.74,-1.7 ; 2.34,1.7 2.34,2.75 2.74,2.75 2.74,1.7 ; 3.61,-1.7 3.61,-2.75 4.01,-2.75 4.01,-1.7 ; 3.61,1.7 3.61,2.75 4.01,2.75 4.01,1.7 ; 4.88,-1.7 4.88,-2.75 5.28,-2.75 5.28,-1.7 ; 4.88,1.7 4.88,2.75 5.28,2.75 5.28,1.7 ; 6.15,-1.7 6.15,-2.75 6.55,-2.75 6.55,-1.7 ; 6.15,1.7 6.15,2.75 6.55,2.75 6.55,1.7 ; 7.42,-1.7 7.42,-2.75 7.82,-2.75 7.82,-1.7 ; 7.42,1.7 7.42,2.75 7.82,2.75 7.82,1.7 ; -8.255,-1.7 8.255,-1.7 8.255,1.7 -8.255,1.7 -8.255,-1.7
Mechanical 15:
  lines w0.05: -0.5,0 0.5,0 ; 0,-0.5 0,0.5 ; -8.605,-3.35 8.605,-3.35 8.605,3.35 -8.605,3.35 -8.605,-3.35
3D body "623326235521.stp": height 5.31, standoff 0, extent -8.255,-2.75 8.255,2.75

## 623350235521 [mm] "Pin Header, pitch 1.27 mm, SMD, Vertical, dual row, 50p"
height 4.45
pads (50):
  rect 0.74x2.4 smd: 1(-15.24,-1.95) 2(-15.24,1.95) 3(-13.97,-1.95) 4(-13.97,1.95) 5(-12.7,-1.95) 6(-12.7,1.95) 7(-11.43,-1.95) 8(-11.43,1.95) 9(-10.16,-1.95) 10(-10.16,1.95) 11(-8.89,-1.95) 12(-8.89,1.95) 13(-7.62,-1.95) 14(-7.62,1.95) 15(-6.35,-1.95) 16(-6.35,1.95) 17(-5.08,-1.95) 18(-5.08,1.95) 19(-3.81,-1.95) 20(-3.81,1.95) 21(-2.54,-1.95) 22(-2.54,1.95) 23(-1.27,-1.95) 24(-1.27,1.95) 25(0,-1.95) 26(0,1.95) 27(1.27,-1.95) 28(1.27,1.95) 29(2.54,-1.95) 30(2.54,1.95) 31(3.81,-1.95) 32(3.81,1.95) 33(5.08,-1.95) 34(5.08,1.95) 35(6.35,-1.95) 36(6.35,1.95) 37(7.62,-1.95) 38(7.62,1.95) 39(8.89,-1.95) 40(8.89,1.95) 41(10.16,-1.95) 42(10.16,1.95) 43(11.43,-1.95) 44(11.43,1.95) 45(12.7,-1.95) 46(12.7,1.95) 47(13.97,-1.95) 48(13.97,1.95) 49(15.24,-1.95) 50(15.24,1.95)
Top Overlay:
  lines w0.2: -16.025,-1.775 -16.025,1.775 ; 16.025,-1.775 16.025,1.775
  text "49" at 16.4,-2.4 h1.02
  text "50" at 16.4,1.5 h1.02
  text "2" at -17,1.5 h1.02
  text "1" at -16.8,-2.4 h1.02
Mechanical 13:
  drawing of 154 lines, arcs and shapes, not listed
Mechanical 15:
  lines w0.05: -0.5,0 0.5,0 ; 0,-0.5 0,0.5 ; -16.225,-3.35 -16.225,3.35 16.225,3.35 16.225,-3.35 -16.225,-3.35
3D body "623350235521.stp": height 5.31, standoff 0, extent -15.875,-2.75 15.875,2.75